# EAGLE library part L9615 (library mylib)
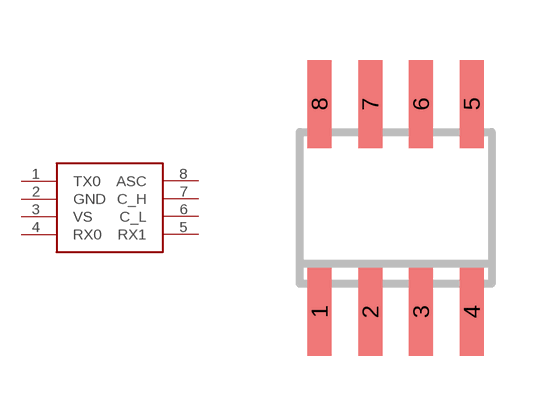
[diagram p2: symbol with the pads of SOT96-1; footprint SOT96-1]

Designator prefix -

## L9615  [SOT96-1]
1  TX0
2  GND
3  VS
4  RX0
5  RX1
6  C_L
7  C_H
8  ASC

## Footprint SOT96-1 (pad centres in mm)
Small Outline Narrow Plastic Gull Wing 150-mil body, package type SN
smd 0.6 x 2.2: 1 -1.905,-2.6; 2 -0.635,-2.6; 3 0.635,-2.6; 4 1.905,-2.6; 5 1.905,2.6; 6 0.635,2.6; 7 -0.635,2.6; 8 -1.905,2.6